# EAGLE library part 615008148521 (library EAGLE-INPUT_OUTPUT_CONNECTORS-rev17c)
WR-MJ_Modular Jacks_Plastic WR-MJ_Modular Jacks_Plastic_Horizontal_Tab UP <http://katalog.we-online.de/media/images/eican/Con_WR-MJ_Horizontal_Plastic%20_615008148521_pf2.jpg> Details see: http://katalog.we-online.de/en/em/MJ_HORIZONTAL_PLASTIC_8P8C_TAB_UP Created 2014-12-22, aslant tao 2014 (C) Würth Elektronik
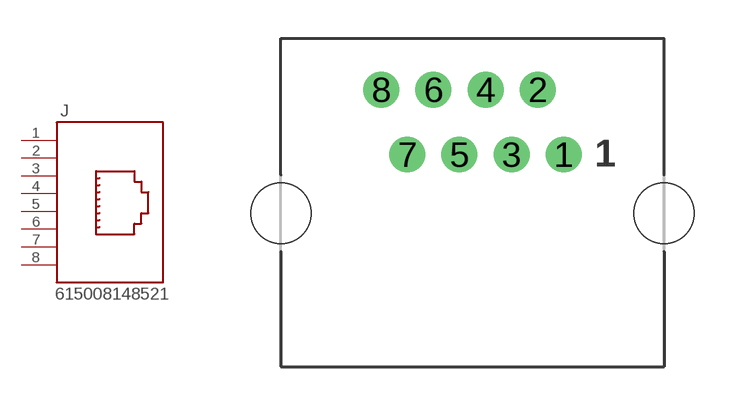
[diagram p161: symbol with the pads of 615008148521; footprint 615008148521]

Designator prefix J

## 615008148521  [615008148521]
1  8  pas
2  7  pas
3  6  pas
4  5  pas
5  4  pas
6  3  pas
7  2  pas
8  1  pas

## Footprint 615008148521 (pad centres in mm)
WR-MJ_Modular Jacks_Plastic_Horizontal_Tab UP
drill 0.9: 1 3.57,2.3; 2 2.55,4.84; 3 1.53,2.3; 4 0.51,4.84; 5 -0.51,2.3; 6 -1.53,4.84; 7 -2.55,2.3; 8 -3.57,4.84
hole 2.36 at -7.5,0
hole 2.36 at 7.5,0